# Altium footprint library Nhu-Altium-Schematic-Lin.PcbLib: 59 footprints (part 4 of 4)
Each footprint in its own frame and in the unit in brackets; x right, y up, seen from the top. Pads: shape width x height; smd on the part's side, far side on the other; paste and mask are expansions set on the pad; w line width, h text height; cw(c..) or ccw(c..) is an arc to the next point about the centre after c.
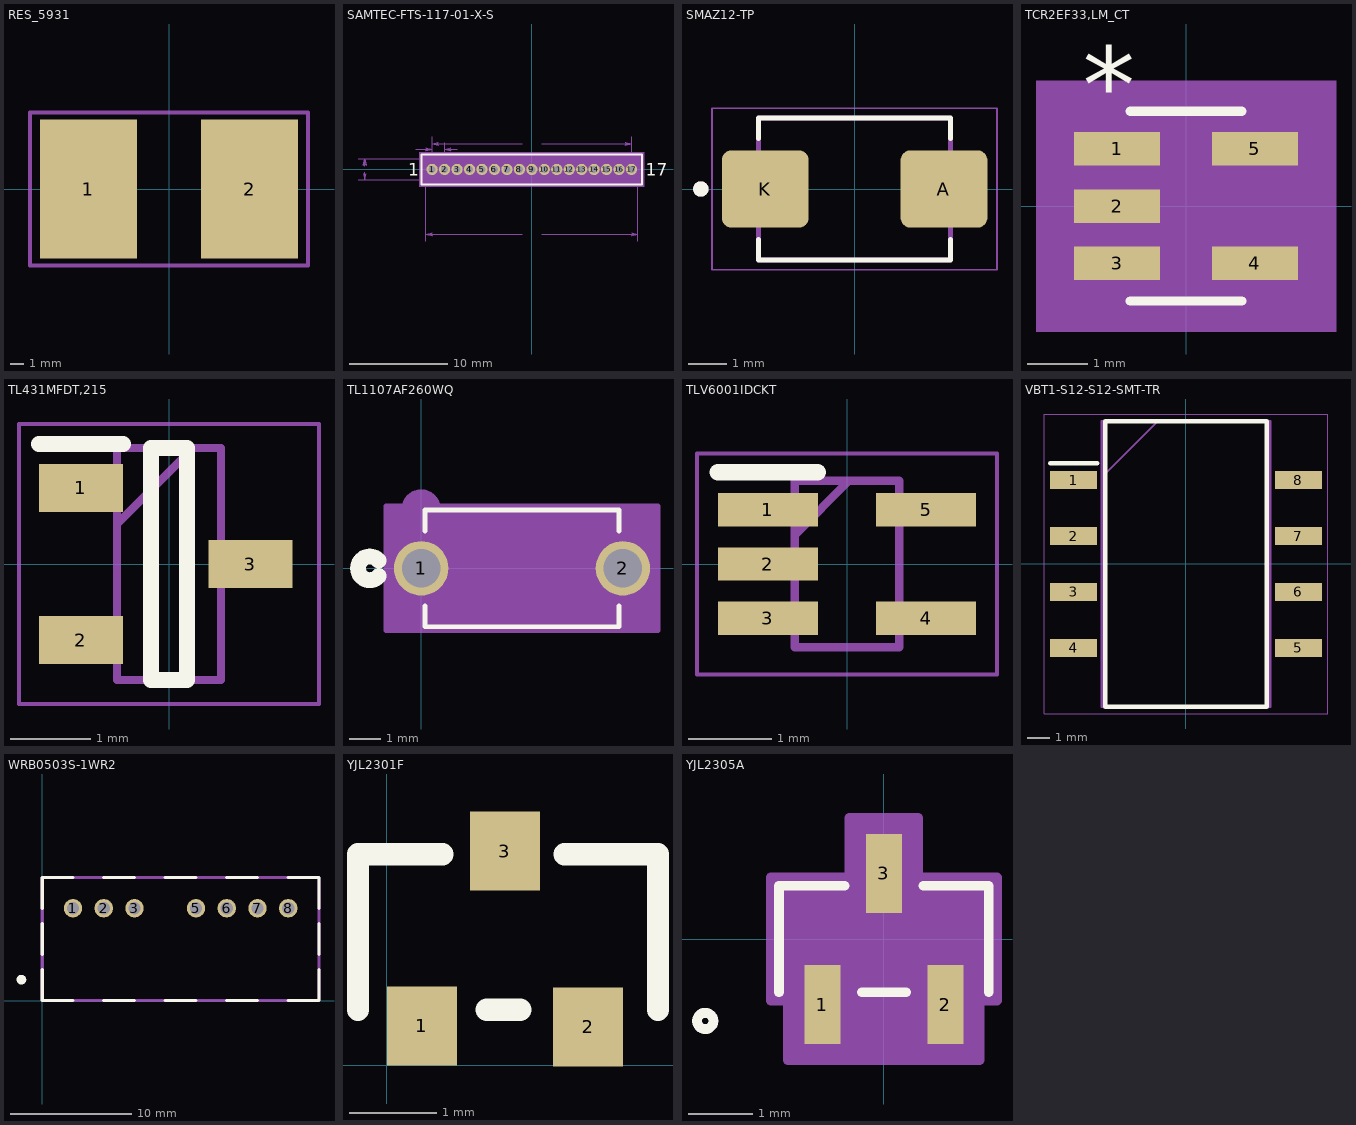
[diagram p3: the footprints below, top view; thin cyan lines are the x and y axes]

## RES_5931 [mm]
pads (2):
  rect 7x10 smd: 1(-5.8,0) 2(5.8,0)
Mechanical 13:
  lines w0.3: -10,-5.5 -10,0.5 -10,5.5 10,5.5 10,-5.5 -10,-5.5
  text "'.Designator'" at -5.815,-0.9 h1
3D body "WSLP5931.stp": height 1.92, standoff 0, extent -7.5,-3.875 7.5,3.875

## SAMTEC-FTS-117-01-X-S [mil]
pads (17):
  round 45 hole 27.95 mask+0: 1(-400,0) 2(-350,0) 3(-300,0) 4(-250,0) 5(-200,0) 6(-150,0) 7(-100,0) 8(-50,0) 9(0,0) 10(50,0) 11(100,0) 12(150,0) 13(200,0) 14(250,0) 15(300,0) 16(350,0) 17(400,0)
Top Overlay:
  lines w7.87: -442.72,-60.24 -442.72,60.24 442.72,60.24 442.72,-60.24 -442.72,-60.24
  text "1" at -496.65,-25 h50
  text "17" at 456.14,-25 h50
Top Solder:
  circle w0: c-400,0 r24.49
  circle w0: c-350,0 r24.49
  circle w0: c-300,0 r24.49
  circle w0: c-250,0 r24.49
  circle w0: c-200,0 r24.49
  circle w0: c-150,0 r24.49
  circle w0: c-100,0 r24.49
  circle w0: c-50,0 r24.49
  circle w0: c0,0 r24.49
  circle w0: c50,0 r24.49
  circle w0: c100,0 r24.49
  circle w0: c150,0 r24.49
  circle w0: c200,0 r24.49
  circle w0: c250,0 r24.49
  circle w0: c300,0 r24.49
  circle w0: c350,0 r24.49
  circle w0: c400,0 r24.49
Bottom Solder:
  circle w0: c-400,0 r24.49
  circle w0: c-350,0 r24.49
  circle w0: c-300,0 r24.49
  circle w0: c-250,0 r24.49
  circle w0: c-200,0 r24.49
  circle w0: c-150,0 r24.49
  circle w0: c-100,0 r24.49
  circle w0: c-50,0 r24.49
  circle w0: c0,0 r24.49
  circle w0: c50,0 r24.49
  circle w0: c100,0 r24.49
  circle w0: c150,0 r24.49
  circle w0: c200,0 r24.49
  circle w0: c250,0 r24.49
  circle w0: c300,0 r24.49
  circle w0: c350,0 r24.49
  circle w0: c400,0 r24.49
Mechanical 13:
  drawing of 196 lines, arcs and shapes, not listed
  text "2.159" at -695.98,-5 h10
  text "1" at -496.65,-25 h50
  text "1.270" at -525.98,75 h10
  text "21.590" at -31.5,-265 h10
  text "20.320" at -31.5,97.48 h10
  text "17" at 456.14,-25 h50
Mechanical 15:
  region: 451.97,-69.49 -451.97,-69.49 -451.97,69.49 451.97,69.49
3D body "FTS-117-01-F-S.stp": height 154, standoff -90, extent -425,-42.5 425,42.5

## SMAZ12-TP [mm]
pads (2):
  rrect25% 2.26x2.01 smd: A(2.325,0) K(-2.325,0)
Top Overlay:
  circle w0.2: c-4,0 r0.1
  lines w0.127: -2.5,-1.318 -2.5,-1.85 2.5,-1.85 2.5,-1.318 ; -2.5,1.318 -2.5,1.85 2.5,1.85 2.5,1.318
Mechanical 13:
  circle w0.2: c-4,0 r0.1
  lines w0.127: -2.5,-1.85 -2.5,1.85 2.5,1.85 2.5,-1.85 -2.5,-1.85
Mechanical 15:
  lines w0.05: -3.705,-2.1 -3.705,2.1 3.705,2.1 3.705,-2.1 -3.705,-2.1
3D body "step_temp.STEP": height 2.4, standoff 0, extent -2.7,-1.85 2.7,1.85

## TCR2EF33,LM_CT [mil]
pads (5):
  rect 56x22 smd paste+0 mask+0: 1(-45.06,37.4) 2(-45.06,0) 3(-45.06,-37.4) 4(45.06,-37.4) 5(45.06,37.4)
Top Overlay:
  lines w6: -36.5,-62 36.5,-62 ; -36.5,62 36.5,62
  text "*" at -67.56,54.4 h50
Mechanical 5:
  region: 98.06,-82 -98.06,-82 -98.06,82 98.06,82
Mechanical 13:
  lines w0: -12,57 ccw(c0,57) 12,57
  lines w1: 31.5,-10 31.5,10 ; -59.06,-47.4 -31.5,-47.4 -31.5,-27.4 -59.06,-27.4 -59.06,-47.4 ; -59.06,-10 -31.5,-10 -31.5,10 -59.06,10 -59.06,-10 ; -59.06,27.4 -31.5,27.4 -31.5,47.4 -59.06,47.4 -59.06,27.4 ; -31.5,-57 -31.5,57 31.5,57 31.5,-57 -31.5,-57 ; 31.5,-47.4 59.06,-47.4 59.06,-27.4 31.5,-27.4 31.5,-47.4 ; 31.5,27.4 59.06,27.4 59.06,47.4 31.5,47.4 31.5,27.4
  text "*" at -29,4 h50
Mechanical 15:
  region: -41.5,-58.4 -83.06,-58.4 -83.06,58.4 -41.5,58.4 -41.5,67 41.5,67 41.5,58.4 83.06,58.4 83.06,-58.4 41.5,-58.4 41.5,-67 -41.5,-67
  lines w6: -83.06,-58.4 -41.5,-58.4 -41.5,-67 41.5,-67 41.5,-58.4 83.06,-58.4 83.06,58.4 41.5,58.4 41.5,67 -41.5,67 -41.5,58.4 -83.06,58.4 -83.06,-58.4
3D body: height 10, standoff 0, extent 0,0 10,10
3D body "SMV_z90.stp": height 45.28, standoff 0, extent -55.12,-57.09 55.12,57.09

## TL431MFDT,215 [mm]
pads (3):
  rect 1.05x0.6 smd: 1(-1.1,0.95) 2(-1.1,-0.95) 3(1.016,0)
Top Overlay:
  lines w0.2: -1.625,1.5 -0.575,1.5 ; -0.225,-1.45 0.225,-1.45 0.225,1.45 -0.225,1.45 -0.225,-1.45
Mechanical 13:
  lines w0.1: -0.65,0.5 0.3,1.45 ; -0.65,-1.45 0.65,-1.45 0.65,1.45 -0.65,1.45 -0.65,-1.45
Mechanical 15:
  lines w0.05: -1.875,-1.75 1.875,-1.75 1.875,1.75 -1.875,1.75 -1.875,-1.75
3D body "PBSS4032PT,215.stp": height 0.94, standoff -0.01, extent -1.258,-1.45 1.143,1.45

## TL1107AF260WQ [mil]
pads (2):
  round 69 / inner round 60 / far side round 69 hole 49 paste-34.5 mask+0: 1(0,0) 2(255.91,0)
Top Overlay:
  lines w6: 4.95,-47.34 4.95,-74 250.95,-74 250.95,-47.34 ; 4.95,47.34 4.95,74 250.95,74 250.95,47.34
  lines w20: -53.71,-9.82 cw(c-65.05,0) -53.71,9.82
Bottom Overlay:
  circle w20: c-65.05,0 r15
Mechanical 13:
  circle w20: c0,75 r15
  lines w1: 9.95,-69 245.95,-69 245.95,69 9.95,69 9.95,-69
Mechanical 15:
  region: 300.41,79 -44.5,79 -44.5,-79 300.41,-79
  lines w6: -44.5,-79 -44.5,79 300.41,79 300.41,-79 -44.5,-79
3D body "TL1107AF180WQ--3DModel-STEP-520916.STEP": height 157.48, standoff -143.7, extent -25.39,-68.9 285.39,68.9

## TLV6001IDCKT [mm]
pads (5):
  rect 1.2x0.4 smd: 1(-0.95,0.65) 2(-0.95,0) 3(-0.95,-0.65) 4(0.95,-0.65) 5(0.95,0.65)
Top Overlay:
  lines w0.2: -1.55,1.1 -0.35,1.1
Mechanical 13:
  lines w0.1: -0.625,0.35 0.025,1 ; -0.625,-1 -0.625,1 0.625,1 0.625,-1 -0.625,-1
Mechanical 15:
  lines w0.05: -1.8,-1.325 -1.8,1.325 1.8,1.325 1.8,-1.325 -1.8,-1.325
3D body "TLV6001IDCKT.stp": height 1, standoff 0, extent -1.05,-1 1.05,1

## VBT1-S12-S12-SMT-TR [mm]
pads (8):
  rect 2.1x0.8 smd: 1(-5,3.735) 2(-5,1.245) 3(-5,-1.245) 4(-5,-3.735) 5(5,-3.735) 6(5,-1.245) 7(5,1.245) 8(5,3.735)
Top Overlay:
  lines w0.2: -6.05,4.485 -3.95,4.485 ; -3.6,-6.35 3.6,-6.35 3.6,6.35 -3.6,6.35 -3.6,-6.35
Mechanical 13:
  lines w0.1: -3.75,3.86 -1.26,6.35 ; -3.75,-6.35 3.75,-6.35 3.75,6.35 -3.75,6.35 -3.75,-6.35
Mechanical 15:
  lines w0.05: -6.3,-6.675 6.3,-6.675 6.3,6.675 -6.3,6.675 -6.3,-6.675
3D body "VBT1-S12-S12-SMT-TR.stp": height 6.4, standoff 0, extent -5.6,-6.35 5.6,6.35

## WRB0503S-1WR2 [mil]
pads (7):
  round 60 hole 39.37: 1(100,300) 2(200,300) 3(300,300) 5(500,300) 6(600,300) 7(700,300) 8(800,300)
Top Overlay:
  lines w10: 0,100 0,0 100,0 ; 0,150 0,250 ; 0,300 0,400 100,400 ; 200,0 300,0 ; 200,400 300,400 ; 400,0 500,0 ; 400,400 500,400 ; 600,0 700,0 ; 600,400 700,400 ; 800,0 900,0 900,100 ; 800,400 900,400 900,300 ; 900,150 900,250
  lines w15.75: -60.61,71.11 ccw(c-67.72,67.72) -59.84,67.72
Mechanical 1:
  lines w10: 0,0 900,0 900,400 0,400 0,0
3D body "wrb0503s-1wr2.stp": height 472.44, standoff -161.42, extent 16.93,12.99 883.07,387.01

## YJL2301F [mm]
pads (3):
  rect 0.8x0.9 smd: 1(0.4,0.45) 2(2.3,0.439) 3(1.35,2.45)
Top Overlay:
  lines w0.254: -0.33,0.635 -0.33,2.413 0.635,2.413 ; 1.143,0.635 1.524,0.635 ; 2.032,2.413 3.1,2.413 3.1,0.635
3D body "SOT-23_YET.step": height 1.15, standoff 0, extent -0.102,0.127 2.896,2.667

## YJL2305A [mil]
pads (3):
  rect 22x48 smd paste+0 mask+0: 1(-37.5,-40) 2(37.5,-40) 3(0,40)
Top Overlay:
  circle w6: c-109,-50 r5
  lines w6: -64,-32.5 -64,32.5 -24.1,32.5 ; -13.4,-32.5 13.4,-32.5 ; 24.1,32.5 64,32.5 64,-32.5
Mechanical 13:
  circle w0: c-49,-17.5 r5
  lines w1: -59,-27.5 59,-27.5 59,27.5 -59,27.5 -59,-27.5 ; -47.5,-50 -47.5,-27.5 -27.5,-27.5 -27.5,-50 -47.5,-50 ; -10,27.5 10,27.5 10,50 -10,50 -10,27.5 ; 27.5,-50 27.5,-27.5 47.5,-27.5 47.5,-50 27.5,-50
Mechanical 15:
  region: -69,-37.5 -69,37.5 -21,37.5 -21,74 21,74 21,37.5 69,37.5 69,-37.5 58.5,-37.5 58.5,-74 -58.5,-74 -58.5,-37.5
  region: 59,-27.5 -59,-27.5 -59,27.5 59,27.5
  lines w6: -69,-37.5 -69,37.5 -21,37.5 -21,74 21,74 21,37.5 69,37.5 69,-37.5 58.5,-37.5 58.5,-74 -58.5,-74 -58.5,-37.5 -69,-37.5
3D body "SOT-23_YET.step": height 45.12, standoff 0, extent -59.02,-50 59.02,50